# EAGLE library part BI-DIRECTIONAL1 (library level-converter)
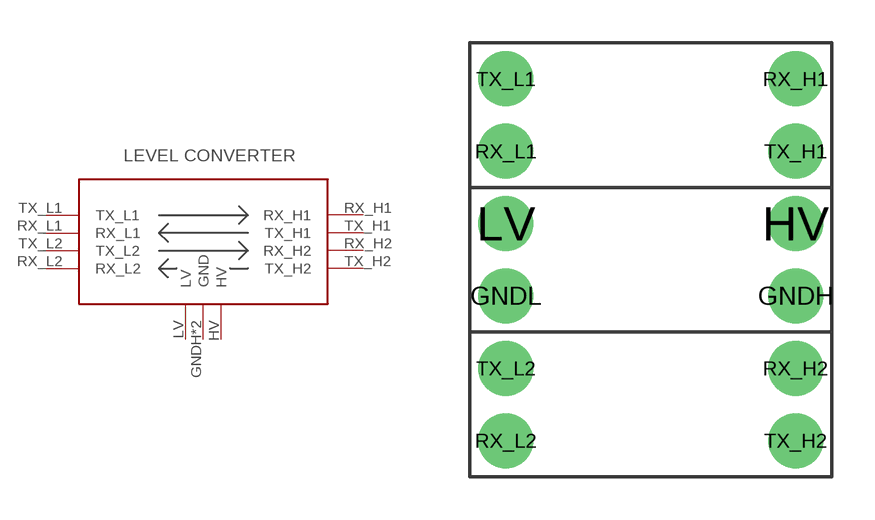
[diagram p0: symbol with the pads of BI-DIRECTIONAL1; footprint BI-DIRECTIONAL1]

Designator prefix -

## BI-DIRECTIONAL1  [BI-DIRECTIONAL1]
GNDH  GND
GNDL  GND
HV  HV
LV  LV
RX_H1  RX_H1
RX_H2  RX_H2
RX_L1  RX_L1
RX_L2  RX_L2
TX_H1  TX_H1
TX_H2  TX_H2
TX_L1  TX_L1
TX_L2  TX_L2

## Footprint BI-DIRECTIONAL1 (pad centres in mm)
drill 0.9 pad 1.93: GNDH 5.08,-1.27; GNDL -5.08,-1.27; HV 5.08,1.27; LV -5.08,1.27; RX_H1 5.08,6.35; RX_H2 5.08,-3.81; RX_L1 -5.08,3.81; RX_L2 -5.08,-6.35; TX_H1 5.08,3.81; TX_H2 5.08,-6.35; TX_L1 -5.08,6.35; TX_L2 -5.08,-3.81